# Altium footprint library RF Amplifiers.PcbLib: 1 footprints
Each footprint in its own frame and in the unit in brackets; x right, y up, seen from the top. Pads: shape width x height; smd on the part's side, far side on the other; paste and mask are expansions set on the pad; w line width, h text height; cw(c..) or ccw(c..) is an arc to the next point about the centre after c.
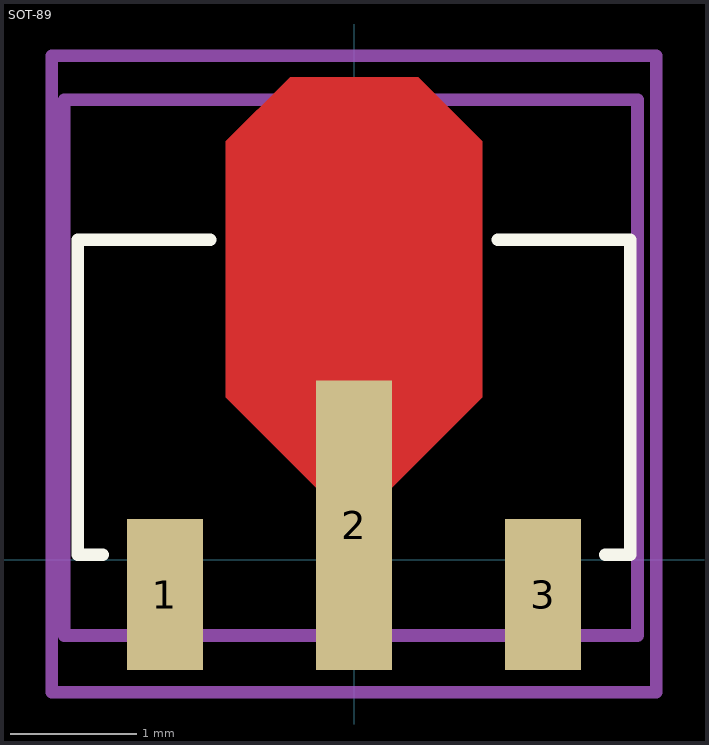
[diagram p0: the footprint, top view; thin cyan lines are the x and y axes]

## SOT-89 [mm] "SOT-89 / 3"
pads (3):
  rect 0.6x1.2 smd: 1(-1.5,-0.275) 3(1.5,-0.275)
  rect 0.6x2.3 smd: 2(0,0.275)
Top Layer:
  region: -0.254,0.529 -1.016,1.291 -1.016,3.323 -0.508,3.831 0.508,3.831 1.016,3.323 1.016,1.291 0.254,0.529
Top Overlay:
  lines w0.1: -1.995,0.04 -2.193,0.04 -2.193,2.54 -1.143,2.54 ; 1.143,2.54 2.193,2.54 2.193,0.04 1.995,0.04
Top 3D Body:
  lines w0.1: -2.3,-0.6 -2.3,3.65 2.25,3.65 2.25,-0.6 -2.3,-0.6
Top Component Center:
  lines w0.1: -2.4,-1.05 2.4,-1.05 2.4,4 -2.4,4 -2.4,-1.05
Top Designator:
  lines w0.1: -2.4,-1.05 2.4,-1.05 2.4,4 -2.4,4 -2.4,-1.05
  text ".Designator" at -0.861,1.629 h0.5
3D body "SOT-89.step": height 1.35, standoff 0, extent -2.314,-0.601 2.286,3.649